# Altium schematic symbol library ucc28180-V02.SchLib: 62 symbols (part 2 of 2)
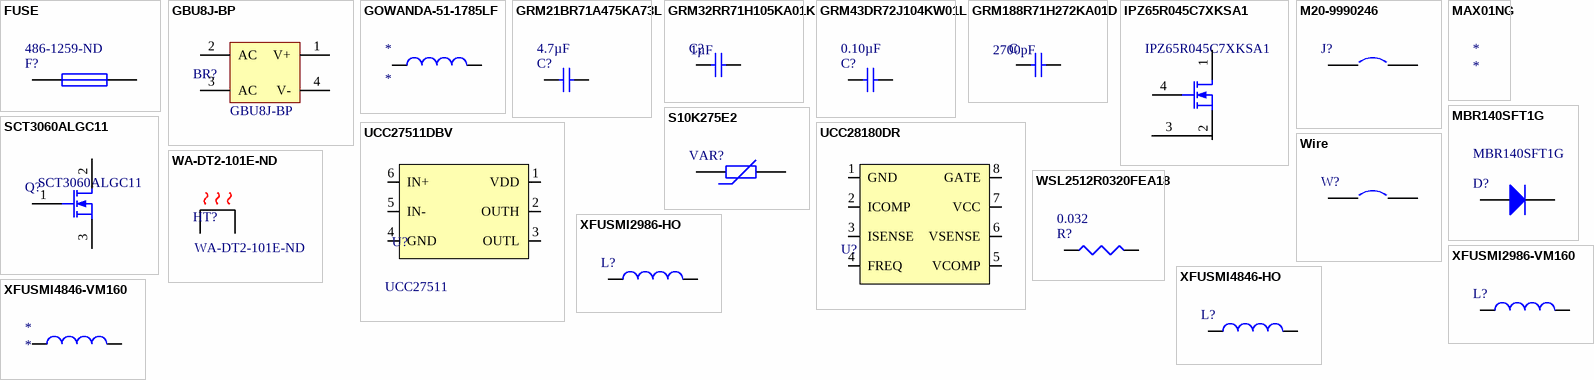
[diagram p2: symbols FUSE to XFUSMI4846-VM160]

## WSL2512R0320FEA18
designator R?  Resistance (Ohms): 0.032  (hidden comment: *)
RES SMD 0.032 OHM 1% 2W 2512; Manufacturer 1: Vishay Dale; Manufacturer Part Number 1: WSL2512R0320FEA18; Category 1: Resistors; Temperature Coefficient: ±75ppm/°C; Supplier 1: Digi-Key; Supplier Part Number 1: WSLH-.032CT-ND; RoHS 1: RoHS Compliant; Description 1: RES SMD 0.032 OHM 1% 2W 2512; Stock 1: 4983; Pricing 1: 1=1.69, 10=1.5, 25=1.3796, 50=1.2584, 100=1.089, 250=0.9196, 500=0.7744, 1000=0.64372 (USD); Packaging: Cut Tape (CT); Part Status: Active; Tolerance: ±1%; Power (Watts): 2W; Composition: Metal Element; Features: Automotive AEC-Q200, Current Sense, Moisture Resistant, Pulse Withstanding; Operating Temperature: -65°C ~ 170°C; Package / Case: 2512 (6432 Metric); Supplier Device Package: 2512; Size / Dimension: 0.250" L x 0.125" W (6.35mm x 3.18mm); Height - Seated (Max): 0.035" (0.89mm); Number of Terminations: 2; Failure Rate: -; ComponentLink1URL: http://www.vishay.com/docs/31057/wslhigh.pdf; ComponentLink1Description: http://www.vishay.com/docs/31057/wslhigh.pdf
footprint RES2512
pins: 1, 2

## XFUSMI2986-HO
designator L?  (value not drawn)
footprint XFUSMI2986-HO (Boost Inductor)
pins: 1, 2

## XFUSMI2986-VM160
designator L?  (value not drawn)
footprint XFUSMI2986-VM-160 (Boost Inductor)
pins: 1, 2

## XFUSMI4846-HO
designator L?  (value not drawn)
footprint XFUSMI4846-HO (Boost Inductor)
pins: 1, 2

## XFUSMI4846-VM160
designator *
footprint XFUSMI4846-VM-160 (Boost Inductor)
pins: 1, 2